# Altium footprint library WE-XHMI_7030.PcbLib: 1 footprints
Each footprint in its own frame and in the unit in brackets; x right, y up, seen from the top. Pads: shape width x height; smd on the part's side, far side on the other; paste and mask are expansions set on the pad; w line width, h text height; cw(c..) or ccw(c..) is an arc to the next point about the centre after c.
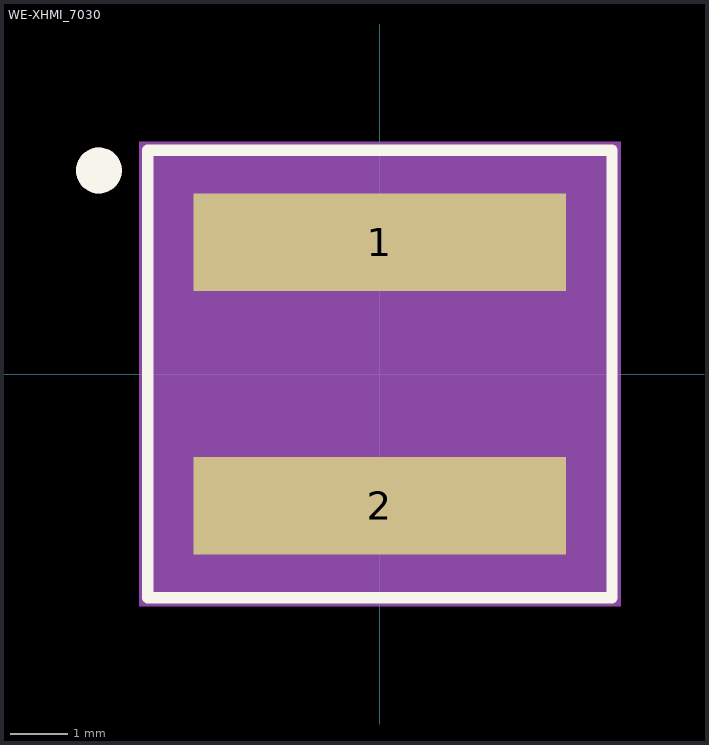
[diagram p0: the footprint, top view; thin cyan lines are the x and y axes]

## WE-XHMI_7030 [mm]
pads (2):
  rect 6.5x1.7 smd paste+0 mask+0.102: 1(0,2.3) 2(0,-2.3)
Top Overlay:
  circle w0.4: c-4.9,3.55 r0.2
  lines w0.2: -4.05,-3.9 -4.05,3.9 4.05,3.9 4.05,-3.9 -4.05,-3.9
Assembly Top:
  circle w0.4: c-4.9,3.55 r0.2
  lines w0.1: -3.95,-3.8 -3.95,3.8 3.95,3.8 3.95,-3.8 -3.95,-3.8
Top Courtyard:
  region: 4.2,-4.05 -4.2,-4.05 -4.2,4.05 4.2,4.05